# EAGLE library part TMS320F2802*DA (library ic-TI-DSP)
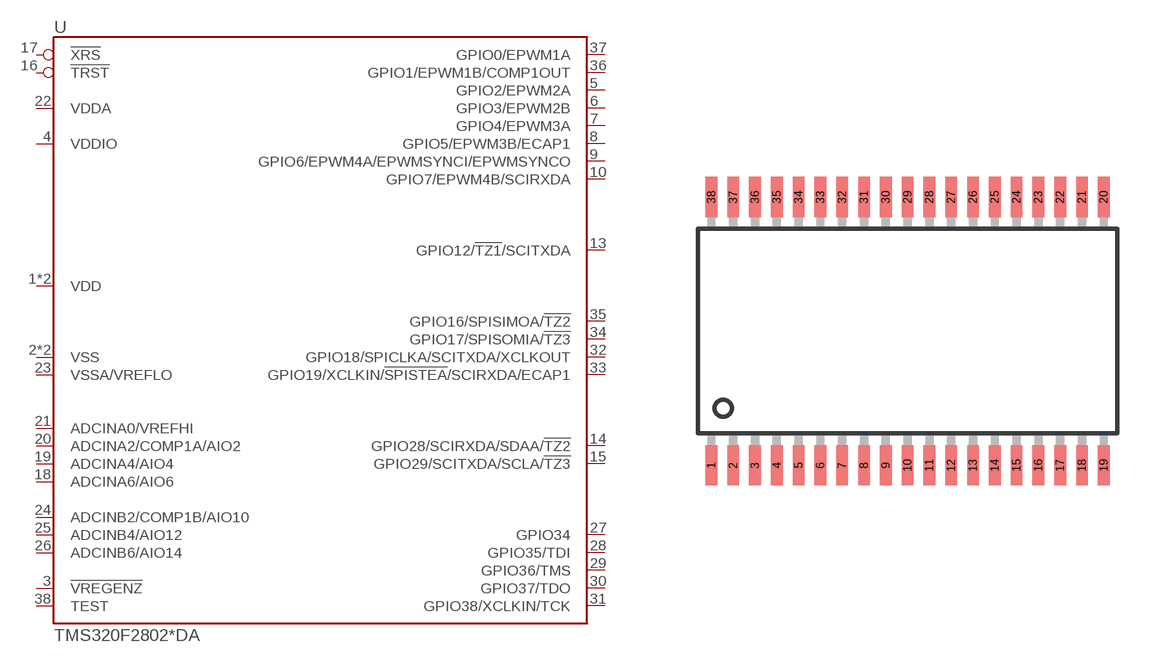
[diagram p3: symbol with the pads of TSSOP38; footprint TSSOP38]

Designator prefix U

## TMS320F28020DA, TMS320F280200DA, TMS320F28021DA, TMS320F28022DA, TMS320F28023DA, TMS320F28026DA, TMS320F28027DA  [TSSOP38]
1  VDD
2  VSS
3  !VREGENZ
4  VDDIO
5  GPIO2/EPWM2A
6  GPIO3/EPWM2B
7  GPIO4/EPWM3A
8  GPIO5/EPWM3B/ECAP1
9  GPIO6/EPWM4A/EPWMSYNCI/EPWMSYNCO
10  GPIO7/EPWM4B/SCIRXDA
11  VDD
12  VSS
13  GPIO12/!TZ1!/SCITXDA
14  GPIO28/SCIRXDA/SDAA/!TZ2!
15  GPIO29/SCITXDA/SCLA/!TZ3!
16  !TRST
17  !XRS
18  ADCINA6/AIO6
19  ADCINA4/AIO4
20  ADCINA2/COMP1A/AIO2
21  ADCINA0/VREFHI
22  VDDA
23  VSSA/VREFLO
24  ADCINB2/COMP1B/AIO10
25  ADCINB4/AIO12
26  ADCINB6/AIO14
27  GPIO34
28  GPIO35/TDI
29  GPIO36/TMS
30  GPIO37/TDO
31  GPIO38/XCLKIN/TCK
32  GPIO18/SPICLKA/SCITXDA/XCLKOUT
33  GPIO19/XCLKIN/!SPISTEA!/SCIRXDA/ECAP1
34  GPIO17/SPISOMIA/!TZ3!
35  GPIO16/SPISIMOA/!TZ2!
36  GPIO1/EPWM1B/COMP1OUT
37  GPIO0/EPWM1A
38  TEST

## Footprint TSSOP38 (pad centres in mm)
smd 0.35 x 1.2: 1 -5.85,-4; 2 -5.2,-4; 3 -4.55,-4; 4 -3.9,-4; 5 -3.25,-4; 6 -2.6,-4; 7 -1.95,-4; 8 -1.3,-4; 9 -0.65,-4; 10 0,-4; 11 0.65,-4; 12 1.3,-4; 13 1.95,-4; 14 2.6,-4; 15 3.25,-4; 16 3.9,-4; 17 4.55,-4; 18 5.2,-4; 19 5.85,-4; 20 5.85,4; 21 5.2,4; 22 4.55,4; 23 3.9,4; 24 3.25,4; 25 2.6,4; 26 1.95,4; 27 1.3,4; 28 0.65,4; 29 0,4; 30 -0.65,4; 31 -1.3,4; 32 -1.95,4; 33 -2.6,4; 34 -3.25,4; 35 -3.9,4; 36 -4.55,4; 37 -5.2,4; 38 -5.85,4